# Altium footprint library LabLib.PcbLib: 145 footprints (part 10 of 10)
Each footprint in its own frame and in the unit in brackets; x right, y up, seen from the top. Pads: shape width x height; smd on the part's side, far side on the other; paste and mask are expansions set on the pad; w line width, h text height; cw(c..) or ccw(c..) is an arc to the next point about the centre after c.
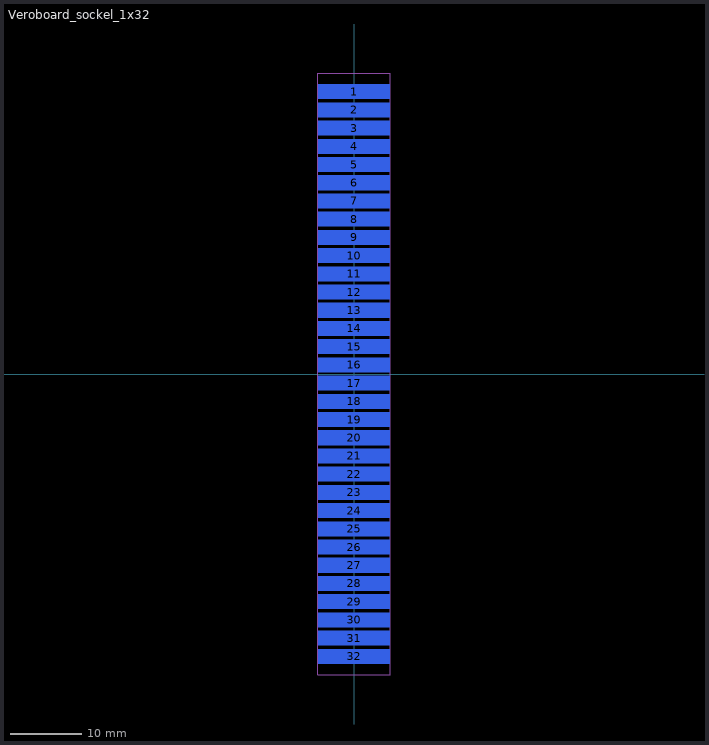
[diagram p9: the footprint, top view; thin cyan lines are the x and y axes]

## Veroboard_sockel_1x32 [mm]
pads (32):
  rect 10x2.032 smd far side: 1(0,39.37) 2(0,36.83) 3(0,34.29) 4(0,31.75) 5(0,29.21) 6(0,26.67) 7(0,24.13) 8(0,21.59) 9(0,19.05) 10(0,16.51) 11(0,13.97) 12(0,11.43) 13(0,8.89) 14(0,6.35) 15(0,3.81) 16(0,1.27) 17(0,-1.27) 18(0,-3.81) 19(0,-6.35) 20(0,-8.89) 21(0,-11.43) 22(0,-13.97) 23(0,-16.51) 24(0,-19.05) 25(0,-21.59) 26(0,-24.13) 27(0,-26.67) 28(0,-29.21) 29(0,-31.75) 30(0,-34.29) 31(0,-36.83) 32(0,-39.37)
Mechanical 1:
  lines w0: -5.08,-41.91 -5.08,41.91 5.08,41.91 5.08,-41.91 -5.08,-41.91